# Altium footprint library USB-C-SMD_HC-TYPE-C-6P-LT023A.PcbLib: 1 footprints
Each footprint in its own frame and in the unit in brackets; x right, y up, seen from the top. Pads: shape width x height; smd on the part's side, far side on the other; paste and mask are expansions set on the pad; w line width, h text height; cw(c..) or ccw(c..) is an arc to the next point about the centre after c.
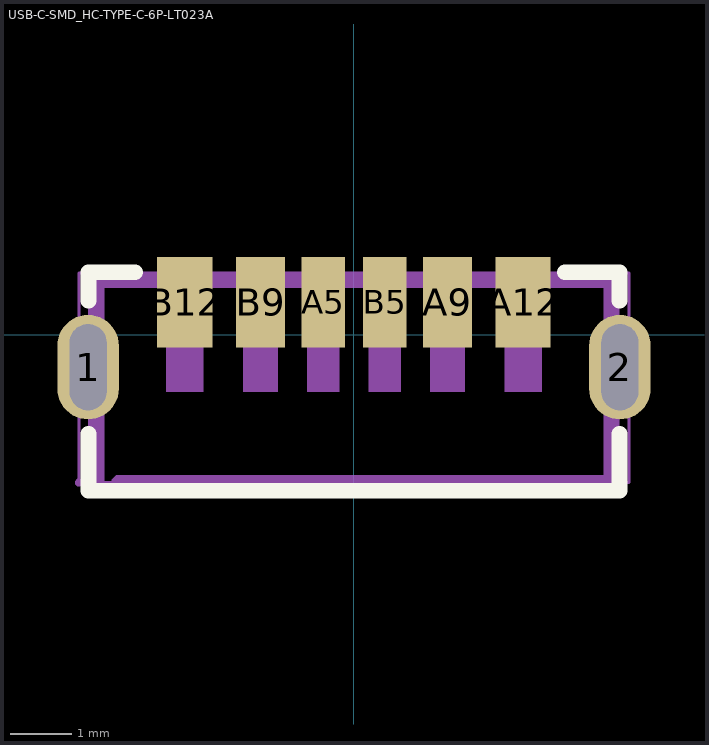
[diagram p0: the footprint, top view; thin cyan lines are the x and y axes]

## USB-C-SMD_HC-TYPE-C-6P-LT023A [mm]
pads (8):
  oval 1x1.7 hole 0.6 slot 1.4 at 90 deg: 1(-4.325,-0.527) 2(4.325,-0.527)
  rect 0.7x1.47 smd paste-100 mask+0.051: A5(-0.5,0.527) B5(0.5,0.527)
  rect 0.8x1.47 smd paste-100 mask+0.051: A9(1.52,0.527) B9(-1.52,0.527)
  rect 0.9x1.47 smd paste-100 mask+0.051: A12(2.75,0.527) B12(-2.75,0.527)
Top Overlay:
  lines w0.254: -4.318,-1.609 -4.318,-2.54 4.318,-2.54 4.318,-1.609 ; -4.318,0.554 -4.318,1.016 -3.556,1.016 ; 3.431,1.016 4.318,1.016 4.318,0.554
Top Paste:
  drawing of 8 lines, arcs and shapes, not listed
Mechanical 6:
  region: -4.318,-2.413 -4.318,0.889 -4.318,0.914 -4.299,0.961 -4.263,0.997 -4.216,1.016 -4.191,1.016 4.191,1.016 4.216,1.016 4.263,0.997 4.299,0.961 4.318,0.914 4.318,0.889 4.318,-2.413 4.318,-2.438 4.299,-2.485 4.263,-2.521 4.216,-2.54 4.191,-2.54 -3.81,-2.54 -3.863,-2.54 -3.937,-2.466 -3.937,-2.36 -3.863,-2.286 -3.81,-2.286 4.064,-2.286 4.064,0.762 -4.064,0.762 -4.064,-2.413 -4.064,-2.466 -4.138,-2.54 -4.244,-2.54 -4.318,-2.466 -4.318,-2.413
Mechanical 15:
  region: 4.175,-0.027 4.475,-0.027 4.475,-1.027 4.175,-1.027
  region: -4.475,-0.027 -4.175,-0.027 -4.175,-1.027 -4.475,-1.027
  region: -3.05,1.005 -2.45,1.005 -2.45,-0.925 -3.05,-0.925
  region: 2.45,1.005 3.05,1.005 3.05,-0.925 2.45,-0.925
  region: -1.8,1.005 -1.24,1.005 -1.24,-0.925 -1.8,-0.925
  region: 1.24,1.005 1.8,1.005 1.8,-0.925 1.24,-0.925
  region: 0.24,1.005 0.76,1.005 0.76,-0.925 0.24,-0.925
  region: -0.76,1.005 -0.24,1.005 -0.24,-0.925 -0.76,-0.925
  region: -4.415,-2.405 -4.415,-2.381 -4.45,-2.346 -4.499,-2.346 -4.534,-2.38 -4.535,-2.405 -4.534,-2.429 -4.5,-2.464 -4.451,-2.464 -4.416,-2.429 -4.415,-2.405
  lines w0.051: -4.47,-2.405 4.47,-2.405 4.47,1.005 -4.47,1.005 -4.47,-2.405